# EAGLE library part TPS62120 (library TPS62120)
TPS62120 2-15V Input 1.2-5.5V Output Highly Efficient Buck Converter DCN PKG
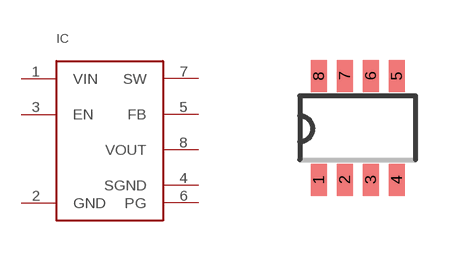
[diagram p0: symbol with the pads of SOT23(8); footprint SOT23(8)]

Designator prefix IC

## TPS62120  [SOT23(8)]
1  VIN
2  GND
3  EN
4  SGND
5  FB
6  PG
7  SW
8  VOUT

## Footprint SOT23(8) (pad centres in mm)
8 Pin SOT 23 Package
smd 0.4 x 0.8: 1 -0.975,-1.3; 2 -0.325,-1.3; 3 0.325,-1.3; 4 0.975,-1.3; 5 0.975,1.3; 6 0.325,1.3; 7 -0.325,1.3; 8 -0.975,1.3